# Altium footprint library CQFP_Sq_63P_Ctr_N.PcbLib: 5 footprints
Each footprint in its own frame and in the unit in brackets; x right, y up, seen from the top. Pads: shape width x height; smd on the part's side, far side on the other; paste and mask are expansions set on the pad; w line width, h text height; cw(c..) or ccw(c..) is an arc to the next point about the centre after c.
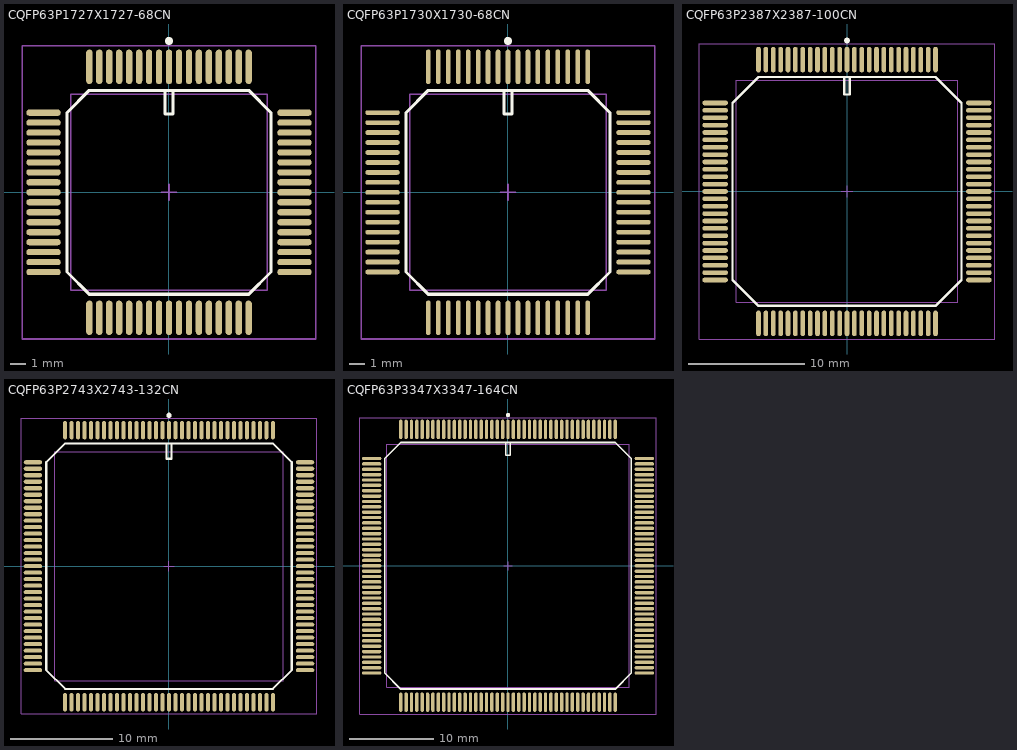
[diagram p0: the footprints below, top view; thin cyan lines are the x and y axes]

## CQFP63P1727X1727-68CN [mm] "68-Pin Ceramic Quad Flat Pack 0.635 mm Pitch"
height 3.9
pads (68):
  oval 0.4x2.2 smd: 1(0,8) 2(-0.635,8) 3(-1.27,8) 4(-1.905,8) 5(-2.54,8) 6(-3.175,8) 7(-3.81,8) 8(-4.445,8) 9(-5.08,8) 27(-5.08,-8) 28(-4.445,-8) 29(-3.81,-8) 30(-3.175,-8) 31(-2.54,-8) 32(-1.905,-8) 33(-1.27,-8) 34(-0.635,-8) 35(0,-8) 36(0.635,-8) 37(1.27,-8) 38(1.905,-8) 39(2.54,-8) 40(3.175,-8) 41(3.81,-8) 42(4.445,-8) 43(5.08,-8) 61(5.08,8) 62(4.445,8) 63(3.81,8) 64(3.175,8) 65(2.54,8) 66(1.905,8) 67(1.27,8) 68(0.635,8)
  oval 2.2x0.4 smd: 10(-8,5.08) 11(-8,4.445) 12(-8,3.81) 13(-8,3.175) 14(-8,2.54) 15(-8,1.905) 16(-8,1.27) 17(-8,0.635) 18(-8,0) 19(-8,-0.635) 20(-8,-1.27) 21(-8,-1.905) 22(-8,-2.54) 23(-8,-3.175) 24(-8,-3.81) 25(-8,-4.445) 26(-8,-5.08) 44(8,-5.08) 45(8,-4.445) 46(8,-3.81) 47(8,-3.175) 48(8,-2.54) 49(8,-1.905) 50(8,-1.27) 51(8,-0.635) 52(8,0) 53(8,0.635) 54(8,1.27) 55(8,1.905) 56(8,2.54) 57(8,3.175) 58(8,3.81) 59(8,4.445) 60(8,5.08)
Top Overlay:
  circle w0.25: c0,9.65 r0.125
  lines w0.2: -0.25,6.5 -0.25,5 0.25,5 0.25,6.5 ; -6.5,-5.08 -5.08,-6.5 5.08,-6.5 6.5,-5.08 6.5,5.08 5.08,6.5 -5.08,6.5 -6.5,5.08 -6.5,-5.08
Mechanical 13:
  lines w0.1: -6.255,-6.255 6.255,-6.255 6.255,6.255 -6.255,6.255 -6.255,-6.255
Mechanical 15:
  lines w0.1: -0.5,0 0.5,0 ; 0,-0.5 0,0.5 ; -9.35,-9.35 9.35,-9.35 9.35,9.35 -9.35,9.35 -9.35,-9.35
3D body: height 3.9, standoff 0, extent -6.255,-6.255 6.255,6.255

## CQFP63P1730X1730-68CN [mm] "68-Pin Ceramic Quad Flat Pack 0.635 mm Pitch"
height 4
pads (68):
  oval 0.3x2.2 smd: 1(0,8) 2(-0.635,8) 3(-1.27,8) 4(-1.905,8) 5(-2.54,8) 6(-3.175,8) 7(-3.81,8) 8(-4.445,8) 9(-5.08,8) 27(-5.08,-8) 28(-4.445,-8) 29(-3.81,-8) 30(-3.175,-8) 31(-2.54,-8) 32(-1.905,-8) 33(-1.27,-8) 34(-0.635,-8) 35(0,-8) 36(0.635,-8) 37(1.27,-8) 38(1.905,-8) 39(2.54,-8) 40(3.175,-8) 41(3.81,-8) 42(4.445,-8) 43(5.08,-8) 61(5.08,8) 62(4.445,8) 63(3.81,8) 64(3.175,8) 65(2.54,8) 66(1.905,8) 67(1.27,8) 68(0.635,8)
  oval 2.2x0.3 smd: 10(-8,5.08) 11(-8,4.445) 12(-8,3.81) 13(-8,3.175) 14(-8,2.54) 15(-8,1.905) 16(-8,1.27) 17(-8,0.635) 18(-8,0) 19(-8,-0.635) 20(-8,-1.27) 21(-8,-1.905) 22(-8,-2.54) 23(-8,-3.175) 24(-8,-3.81) 25(-8,-4.445) 26(-8,-5.08) 44(8,-5.08) 45(8,-4.445) 46(8,-3.81) 47(8,-3.175) 48(8,-2.54) 49(8,-1.905) 50(8,-1.27) 51(8,-0.635) 52(8,0) 53(8,0.635) 54(8,1.27) 55(8,1.905) 56(8,2.54) 57(8,3.175) 58(8,3.81) 59(8,4.445) 60(8,5.08)
Top Overlay:
  circle w0.25: c0,9.65 r0.125
  lines w0.2: -0.25,6.5 -0.25,5 0.25,5 0.25,6.5 ; -6.5,-5.08 -6.5,5.08 -5.08,6.5 5.08,6.5 6.5,5.08 6.5,-5.08 5.08,-6.5 -5.08,-6.5 -6.5,-5.08
Mechanical 13:
  lines w0.1: -6.255,-6.255 -6.255,6.255 6.255,6.255 6.255,-6.255 -6.255,-6.255
Mechanical 15:
  lines w0.1: -0.5,0 0.5,0 ; 0,-0.5 0,0.5 ; -9.35,-9.35 -9.35,9.35 9.35,9.35 9.35,-9.35 -9.35,-9.35
3D body: height 4, standoff 0, extent -6.255,-6.255 6.255,6.255

## CQFP63P2387X2387-100CN [mm] "100-Pin Ceramic Brazed Quad Flat Pack (CB100)"
height 3.5
pads (100):
  oval 0.4x2.2 smd: 1(0,11.35) 2(-0.635,11.35) 3(-1.27,11.35) 4(-1.905,11.35) 5(-2.54,11.35) 6(-3.175,11.35) 7(-3.81,11.35) 8(-4.445,11.35) 9(-5.08,11.35) 10(-5.715,11.35) 11(-6.35,11.35) 12(-6.985,11.35) 13(-7.62,11.35) 39(-7.62,-11.35) 40(-6.985,-11.35) 41(-6.35,-11.35) 42(-5.715,-11.35) 43(-5.08,-11.35) 44(-4.445,-11.35) 45(-3.81,-11.35) 46(-3.175,-11.35) 47(-2.54,-11.35) 48(-1.905,-11.35) 49(-1.27,-11.35) 50(-0.635,-11.35) 51(0,-11.35) 52(0.635,-11.35) 53(1.27,-11.35) 54(1.905,-11.35) 55(2.54,-11.35) 56(3.175,-11.35) 57(3.81,-11.35) 58(4.445,-11.35) 59(5.08,-11.35) 60(5.715,-11.35) 61(6.35,-11.35) 62(6.985,-11.35) 63(7.62,-11.35) 89(7.62,11.35) 90(6.985,11.35) 91(6.35,11.35) 92(5.715,11.35) 93(5.08,11.35) 94(4.445,11.35) 95(3.81,11.35) 96(3.175,11.35) 97(2.54,11.35) 98(1.905,11.35) 99(1.27,11.35) 100(0.635,11.35)
  oval 2.2x0.4 smd: 14(-11.35,7.62) 15(-11.35,6.985) 16(-11.35,6.35) 17(-11.35,5.715) 18(-11.35,5.08) 19(-11.35,4.445) 20(-11.35,3.81) 21(-11.35,3.175) 22(-11.35,2.54) 23(-11.35,1.905) 24(-11.35,1.27) 25(-11.35,0.635) 26(-11.35,0) 27(-11.35,-0.635) 28(-11.35,-1.27) 29(-11.35,-1.905) 30(-11.35,-2.54) 31(-11.35,-3.175) 32(-11.35,-3.81) 33(-11.35,-4.445) 34(-11.35,-5.08) 35(-11.35,-5.715) 36(-11.35,-6.35) 37(-11.35,-6.985) 38(-11.35,-7.62) 64(11.35,-7.62) 65(11.35,-6.985) 66(11.35,-6.35) 67(11.35,-5.715) 68(11.35,-5.08) 69(11.35,-4.445) 70(11.35,-3.81) 71(11.35,-3.175) 72(11.35,-2.54) 73(11.35,-1.905) 74(11.35,-1.27) 75(11.35,-0.635) 76(11.35,0) 77(11.35,0.635) 78(11.35,1.27) 79(11.35,1.905) 80(11.35,2.54) 81(11.35,3.175) 82(11.35,3.81) 83(11.35,4.445) 84(11.35,5.08) 85(11.35,5.715) 86(11.35,6.35) 87(11.35,6.985) 88(11.35,7.62)
Top Overlay:
  circle w0.25: c0,13 r0.125
  lines w0.2: -0.25,9.85 -0.25,8.35 0.25,8.35 0.25,9.85 ; -9.85,-7.62 -7.62,-9.85 7.62,-9.85 9.85,-7.62 9.85,7.62 7.62,9.85 -7.62,9.85 -9.85,7.62 -9.85,-7.62
Mechanical 13:
  lines w0.1: -9.555,-9.555 9.555,-9.555 9.555,9.555 -9.555,9.555 -9.555,-9.555
Mechanical 15:
  lines w0.1: -0.5,0 0.5,0 ; 0,-0.5 0,0.5 ; -12.7,-12.7 12.7,-12.7 12.7,12.7 -12.7,12.7 -12.7,-12.7
3D body: height 3.5, standoff 0, extent -9.555,-9.555 9.555,9.555

## CQFP63P2743X2743-132CN [mm] "CQFP, 132-Leads, Body 22.4x22.4mm; Pitch 0.635mm, Gullwing Leadform, IPC Medium Density"
height 4.4
pads (132):
  oval 0.4x1.8 smd: 1(0,13.3) 2(-0.635,13.3) 3(-1.27,13.3) 4(-1.905,13.3) 5(-2.54,13.3) 6(-3.175,13.3) 7(-3.81,13.3) 8(-4.445,13.3) 9(-5.08,13.3) 10(-5.715,13.3) 11(-6.35,13.3) 12(-6.985,13.3) 13(-7.62,13.3) 14(-8.255,13.3) 15(-8.89,13.3) 16(-9.525,13.3) 17(-10.16,13.3) 51(-10.16,-13.3) 52(-9.525,-13.3) 53(-8.89,-13.3) 54(-8.255,-13.3) 55(-7.62,-13.3) 56(-6.985,-13.3) 57(-6.35,-13.3) 58(-5.715,-13.3) 59(-5.08,-13.3) 60(-4.445,-13.3) 61(-3.81,-13.3) 62(-3.175,-13.3) 63(-2.54,-13.3) 64(-1.905,-13.3) 65(-1.27,-13.3) 66(-0.635,-13.3) 67(0,-13.3) 68(0.635,-13.3) 69(1.27,-13.3) 70(1.905,-13.3) 71(2.54,-13.3) 72(3.175,-13.3) 73(3.81,-13.3) 74(4.445,-13.3) 75(5.08,-13.3) 76(5.715,-13.3) 77(6.35,-13.3) 78(6.985,-13.3) 79(7.62,-13.3) 80(8.255,-13.3) 81(8.89,-13.3) 82(9.525,-13.3) 83(10.16,-13.3) 117(10.16,13.3) 118(9.525,13.3) 119(8.89,13.3) 120(8.255,13.3) 121(7.62,13.3) 122(6.985,13.3) 123(6.35,13.3) 124(5.715,13.3) 125(5.08,13.3) 126(4.445,13.3) 127(3.81,13.3) 128(3.175,13.3) 129(2.54,13.3) 130(1.905,13.3) 131(1.27,13.3) 132(0.635,13.3)
  oval 1.8x0.4 smd: 18(-13.3,10.16) 19(-13.3,9.525) 20(-13.3,8.89) 21(-13.3,8.255) 22(-13.3,7.62) 23(-13.3,6.985) 24(-13.3,6.35) 25(-13.3,5.715) 26(-13.3,5.08) 27(-13.3,4.445) 28(-13.3,3.81) 29(-13.3,3.175) 30(-13.3,2.54) 31(-13.3,1.905) 32(-13.3,1.27) 33(-13.3,0.635) 34(-13.3,0) 35(-13.3,-0.635) 36(-13.3,-1.27) 37(-13.3,-1.905) 38(-13.3,-2.54) 39(-13.3,-3.175) 40(-13.3,-3.81) 41(-13.3,-4.445) 42(-13.3,-5.08) 43(-13.3,-5.715) 44(-13.3,-6.35) 45(-13.3,-6.985) 46(-13.3,-7.62) 47(-13.3,-8.255) 48(-13.3,-8.89) 49(-13.3,-9.525) 50(-13.3,-10.16) 84(13.3,-10.16) 85(13.3,-9.525) 86(13.3,-8.89) 87(13.3,-8.255) 88(13.3,-7.62) 89(13.3,-6.985) 90(13.3,-6.35) 91(13.3,-5.715) 92(13.3,-5.08) 93(13.3,-4.445) 94(13.3,-3.81) 95(13.3,-3.175) 96(13.3,-2.54) 97(13.3,-1.905) 98(13.3,-1.27) 99(13.3,-0.635) 100(13.3,0) 101(13.3,0.635) 102(13.3,1.27) 103(13.3,1.905) 104(13.3,2.54) 105(13.3,3.175) 106(13.3,3.81) 107(13.3,4.445) 108(13.3,5.08) 109(13.3,5.715) 110(13.3,6.35) 111(13.3,6.985) 112(13.3,7.62) 113(13.3,8.255) 114(13.3,8.89) 115(13.3,9.525) 116(13.3,10.16)
Top Overlay:
  circle w0.25: c0,14.75 r0.125
  lines w0.2: -0.25,12 -0.25,10.5 0.25,10.5 0.25,12 ; -12,-10.16 -10.16,-12 10.16,-12 12,-10.16 12,10.16 10.16,12 -10.16,12 -12,10.16 -12,-10.16
Mechanical 13:
  lines w0.1: -11.18,-11.18 11.18,-11.18 11.18,11.18 -11.18,11.18 -11.18,-11.18
Mechanical 15:
  lines w0.1: -0.5,0 0.5,0 ; 0,-0.5 0,0.5 ; -14.45,-14.45 14.45,-14.45 14.45,14.45 -14.45,14.45 -14.45,-14.45
3D body: height 4.4, standoff 0, extent -11.18,-11.18 11.18,11.18

## CQFP63P3347X3347-164CN [mm] "164-Pin Ceramic Brazed Quad Flat Pack (CB164)"
height 3.4
pads (164):
  oval 0.4x2.3 smd: 1(0,16.15) 2(-0.635,16.15) 3(-1.27,16.15) 4(-1.905,16.15) 5(-2.54,16.15) 6(-3.175,16.15) 7(-3.81,16.15) 8(-4.445,16.15) 9(-5.08,16.15) 10(-5.715,16.15) 11(-6.35,16.15) 12(-6.985,16.15) 13(-7.62,16.15) 14(-8.255,16.15) 15(-8.89,16.15) 16(-9.525,16.15) 17(-10.16,16.15) 18(-10.795,16.15) 19(-11.43,16.15) 20(-12.065,16.15) 21(-12.7,16.15) 63(-12.7,-16.15) 64(-12.065,-16.15) 65(-11.43,-16.15) 66(-10.795,-16.15) 67(-10.16,-16.15) 68(-9.525,-16.15) 69(-8.89,-16.15) 70(-8.255,-16.15) 71(-7.62,-16.15) 72(-6.985,-16.15) 73(-6.35,-16.15) 74(-5.715,-16.15) 75(-5.08,-16.15) 76(-4.445,-16.15) 77(-3.81,-16.15) 78(-3.175,-16.15) 79(-2.54,-16.15) 80(-1.905,-16.15) 81(-1.27,-16.15) 82(-0.635,-16.15) 83(0,-16.15) 84(0.635,-16.15) 85(1.27,-16.15) 86(1.905,-16.15) 87(2.54,-16.15) 88(3.175,-16.15) 89(3.81,-16.15) 90(4.445,-16.15) 91(5.08,-16.15) 92(5.715,-16.15) 93(6.35,-16.15) 94(6.985,-16.15) 95(7.62,-16.15) 96(8.255,-16.15) 97(8.89,-16.15) 98(9.525,-16.15) 99(10.16,-16.15) 100(10.795,-16.15) 101(11.43,-16.15) 102(12.065,-16.15) 103(12.7,-16.15) 145(12.7,16.15) 146(12.065,16.15) 147(11.43,16.15) 148(10.795,16.15) 149(10.16,16.15) 150(9.525,16.15) 151(8.89,16.15) 152(8.255,16.15) 153(7.62,16.15) 154(6.985,16.15) 155(6.35,16.15) 156(5.715,16.15) 157(5.08,16.15) 158(4.445,16.15) 159(3.81,16.15) 160(3.175,16.15) 161(2.54,16.15) 162(1.905,16.15) 163(1.27,16.15) 164(0.635,16.15)
  oval 2.3x0.4 smd: 22(-16.15,12.7) 23(-16.15,12.065) 24(-16.15,11.43) 25(-16.15,10.795) 26(-16.15,10.16) 27(-16.15,9.525) 28(-16.15,8.89) 29(-16.15,8.255) 30(-16.15,7.62) 31(-16.15,6.985) 32(-16.15,6.35) 33(-16.15,5.715) 34(-16.15,5.08) 35(-16.15,4.445) 36(-16.15,3.81) 37(-16.15,3.175) 38(-16.15,2.54) 39(-16.15,1.905) 40(-16.15,1.27) 41(-16.15,0.635) 42(-16.15,0) 43(-16.15,-0.635) 44(-16.15,-1.27) 45(-16.15,-1.905) 46(-16.15,-2.54) 47(-16.15,-3.175) 48(-16.15,-3.81) 49(-16.15,-4.445) 50(-16.15,-5.08) 51(-16.15,-5.715) 52(-16.15,-6.35) 53(-16.15,-6.985) 54(-16.15,-7.62) 55(-16.15,-8.255) 56(-16.15,-8.89) 57(-16.15,-9.525) 58(-16.15,-10.16) 59(-16.15,-10.795) 60(-16.15,-11.43) 61(-16.15,-12.065) 62(-16.15,-12.7) 104(16.15,-12.7) 105(16.15,-12.065) 106(16.15,-11.43) 107(16.15,-10.795) 108(16.15,-10.16) 109(16.15,-9.525) 110(16.15,-8.89) 111(16.15,-8.255) 112(16.15,-7.62) 113(16.15,-6.985) 114(16.15,-6.35) 115(16.15,-5.715) 116(16.15,-5.08) 117(16.15,-4.445) 118(16.15,-3.81) 119(16.15,-3.175) 120(16.15,-2.54) 121(16.15,-1.905) 122(16.15,-1.27) 123(16.15,-0.635) 124(16.15,0) 125(16.15,0.635) 126(16.15,1.27) 127(16.15,1.905) 128(16.15,2.54) 129(16.15,3.175) 130(16.15,3.81) 131(16.15,4.445) 132(16.15,5.08) 133(16.15,5.715) 134(16.15,6.35) 135(16.15,6.985) 136(16.15,7.62) 137(16.15,8.255) 138(16.15,8.89) 139(16.15,9.525) 140(16.15,10.16) 141(16.15,10.795) 142(16.15,11.43) 143(16.15,12.065) 144(16.15,12.7)
Top Overlay:
  circle w0.25: c0,17.85 r0.125
  lines w0.2: -0.25,14.6 -0.25,13.1 0.25,13.1 0.25,14.6 ; -14.6,-12.7 -14.6,12.7 -12.7,14.6 12.7,14.6 14.6,12.7 14.6,-12.7 12.7,-14.6 -12.7,-14.6 -14.6,-12.7
Mechanical 13:
  lines w0.1: -14.385,-14.385 -14.385,14.385 14.385,14.385 14.385,-14.385 -14.385,-14.385
Mechanical 15:
  lines w0.1: -0.5,0 0.5,0 ; 0,-0.5 0,0.5 ; -17.55,-17.55 -17.55,17.55 17.55,17.55 17.55,-17.55 -17.55,-17.55
3D body: height 3.4, standoff 0, extent -14.385,-14.385 14.385,14.385